# Altium schematic symbol library FILTER.SchLib: 1 symbol
Pins are listed as number, name and electrical type; pins without a type are passive.

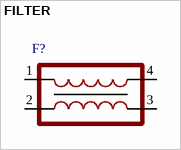
[diagram p0: symbol FILTER]

## FILTER
designator F?
pins: 1, 2, 3, 4